# EAGLE library part MC1322* (library parts)
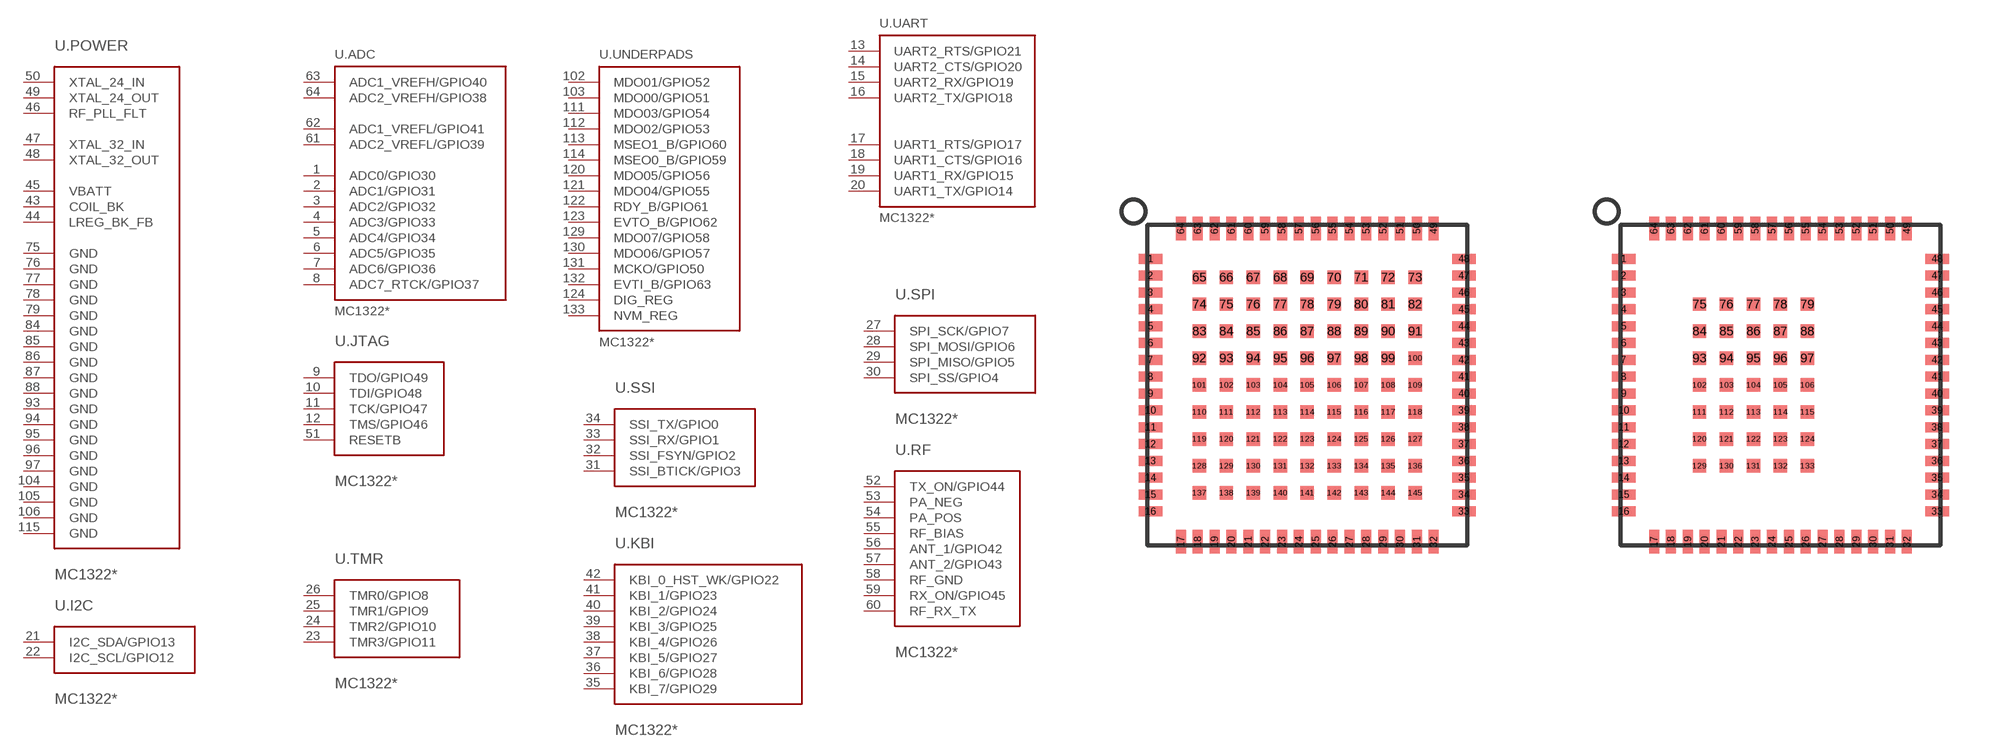
[diagram p0: symbol with the pads of LGA145; footprints LGA145, LGA145-NOEXTRAS]

Designator prefix U; gates .ADC=MC1322-ADC .I2C=MC1322-I2C .KBI=MC1322-KBI .JTAG=MC1322-PROG .RF=MC1322-RF .SPI=MC1322-SPI .SSI=MC1322-SSI .UART=MC1322-UART .TMR=MC1322-TMR .UNDERPADS=MC-1322-UNDERPAD .POWER=MC1322-POWER

## MC13224V-LGA145, MC13224VR2-LGA145  [LGA145]
1  .ADC:ADC0/GPIO30
2  .ADC:ADC1/GPIO31
3  .ADC:ADC2/GPIO32
4  .ADC:ADC3/GPIO33
5  .ADC:ADC4/GPIO34
6  .ADC:ADC5/GPIO35
7  .ADC:ADC6/GPIO36
8  .ADC:ADC7_RTCK/GPIO37
9  .JTAG:TDO/GPIO49
10  .JTAG:TDI/GPIO48
11  .JTAG:TCK/GPIO47
12  .JTAG:TMS/GPIO46
13  .UART:UART2_RTS/GPIO21
14  .UART:UART2_CTS/GPIO20
15  .UART:UART2_RX/GPIO19
16  .UART:UART2_TX/GPIO18
17  .UART:UART1_RTS/GPIO17
18  .UART:UART1_CTS/GPIO16
19  .UART:UART1_RX/GPIO15
20  .UART:UART1_TX/GPIO14
21  .I2C:I2C_SDA/GPIO13
22  .I2C:I2C_SCL/GPIO12
23  .TMR:TMR3/GPIO11
24  .TMR:TMR2/GPIO10
25  .TMR:TMR1/GPIO9
26  .TMR:TMR0/GPIO8
27  .SPI:SPI_SCK/GPIO7
28  .SPI:SPI_MOSI/GPIO6
29  .SPI:SPI_MISO/GPIO5
30  .SPI:SPI_SS/GPIO4
31  .SSI:SSI_BTICK/GPIO3
32  .SSI:SSI_FSYN/GPIO2
33  .SSI:SSI_RX/GPIO1
34  .SSI:SSI_TX/GPIO0
35  .KBI:KBI_7/GPIO29
36  .KBI:KBI_6/GPIO28
37  .KBI:KBI_5/GPIO27
38  .KBI:KBI_4/GPIO26
39  .KBI:KBI_3/GPIO25
40  .KBI:KBI_2/GPIO24
41  .KBI:KBI_1/GPIO23
42  .KBI:KBI_0_HST_WK/GPIO22
43  .POWER:COIL_BK  pwr
44  .POWER:LREG_BK_FB  pwr
45  .POWER:VBATT  pwr
46  .POWER:RF_PLL_FLT  pas
47  .POWER:XTAL_32_IN  in
48  .POWER:XTAL_32_OUT  out
49  .POWER:XTAL_24_OUT  out
50  .POWER:XTAL_24_IN  in
51  .JTAG:RESETB  in
52  .RF:TX_ON/GPIO44
53  .RF:PA_NEG  out
54  .RF:PA_POS  out
55  .RF:RF_BIAS  sup
56  .RF:ANT_1/GPIO42
57  .RF:ANT_2/GPIO43
58  .RF:RF_GND  pwr
59  .RF:RX_ON/GPIO45
60  .RF:RF_RX_TX
61  .ADC:ADC2_VREFL/GPIO39
62  .ADC:ADC1_VREFL/GPIO41
63  .ADC:ADC1_VREFH/GPIO40
64  .ADC:ADC2_VREFH/GPIO38
75  .POWER:GND
76  .POWER:GND
77  .POWER:GND
78  .POWER:GND
79  .POWER:GND
84  .POWER:GND
85  .POWER:GND
86  .POWER:GND
87  .POWER:GND
88  .POWER:GND
93  .POWER:GND
94  .POWER:GND
95  .POWER:GND
96  .POWER:GND
97  .POWER:GND
102  .UNDERPADS:MDO01/GPIO52
103  .UNDERPADS:MDO00/GPIO51
104  .POWER:GND
105  .POWER:GND
106  .POWER:GND
111  .UNDERPADS:MDO03/GPIO54
112  .UNDERPADS:MDO02/GPIO53
113  .UNDERPADS:MSEO1_B/GPIO60
114  .UNDERPADS:MSEO0_B/GPIO59
115  .POWER:GND
120  .UNDERPADS:MDO05/GPIO56
121  .UNDERPADS:MDO04/GPIO55
122  .UNDERPADS:RDY_B/GPIO61
123  .UNDERPADS:EVTO_B/GPIO62
124  .UNDERPADS:DIG_REG
129  .UNDERPADS:MDO07/GPIO58
130  .UNDERPADS:MDO06/GPIO57
131  .UNDERPADS:MCKO/GPIO50
132  .UNDERPADS:EVTI_B/GPIO63
133  .UNDERPADS:NVM_REG

## MC1322-NO-EXTRA-PADS  [LGA145-NOEXTRAS]
Pads as for LGA145

## Footprint LGA145 (pad centres in mm)
smd 0.7 x 0.3: 1 -4.65,3.75; 2 -4.65,3.25; 3 -4.65,2.75; 4 -4.65,2.25; 5 -4.65,1.75; 6 -4.65,1.25; 7 -4.65,0.75; 8 -4.65,0.25; 9 -4.65,-0.25; 10 -4.65,-0.75; 11 -4.65,-1.25; 12 -4.65,-1.75; 13 -4.65,-2.25; 14 -4.65,-2.75; 15 -4.65,-3.25; 16 -4.65,-3.75; 33 4.65,-3.75; 34 4.65,-3.25; 35 4.65,-2.75; 36 4.65,-2.25; 37 4.65,-1.75; 38 4.65,-1.25; 39 4.65,-0.75; 40 4.65,-0.25; 41 4.65,0.25; 42 4.65,0.75; 43 4.65,1.25; 44 4.65,1.75; 45 4.65,2.25; 46 4.65,2.75; 47 4.65,3.25; 48 4.65,3.75
smd 0.3 x 0.7: 17 -3.75,-4.65; 18 -3.25,-4.65; 19 -2.75,-4.65; 20 -2.25,-4.65; 21 -1.75,-4.65; 22 -1.25,-4.65; 23 -0.75,-4.65; 24 -0.25,-4.65; 25 0.25,-4.65; 26 0.75,-4.65; 27 1.25,-4.65; 28 1.75,-4.65; 29 2.25,-4.65; 30 2.75,-4.65; 31 3.25,-4.65; 32 3.75,-4.65; 49 3.75,4.65; 50 3.25,4.65; 51 2.75,4.65; 52 2.25,4.65; 53 1.75,4.65; 54 1.25,4.65; 55 0.75,4.65; 56 0.25,4.65; 57 -0.25,4.65; 58 -0.75,4.65; 59 -1.25,4.65; 60 -1.75,4.65; 61 -2.25,4.65; 62 -2.75,4.65; 63 -3.25,4.65; 64 -3.75,4.65
smd 0.4 x 0.4: 65 -3.2,3.2; 66 -2.4,3.2; 67 -1.6,3.2; 68 -0.8,3.2; 69 0,3.2; 70 0.8,3.2; 71 1.6,3.2; 72 2.4,3.2; 73 3.2,3.2; 74 -3.2,2.4; 75 -2.4,2.4; 76 -1.6,2.4; 77 -0.8,2.4; 78 0,2.4; 79 0.8,2.4; 80 1.6,2.4; 81 2.4,2.4; 82 3.2,2.4; 83 -3.2,1.6; 84 -2.4,1.6; 85 -1.6,1.6; 86 -0.8,1.6; 87 0,1.6; 88 0.8,1.6; 89 1.6,1.6; 90 2.4,1.6; 91 3.2,1.6; 92 -3.2,0.8; 93 -2.4,0.8; 94 -1.6,0.8; 95 -0.8,0.8; 96 0,0.8; 97 0.8,0.8; 98 1.6,0.8; 99 2.4,0.8; 100 3.2,0.8; 101 -3.2,0; 102 -2.4,0; 103 -1.6,0; 104 -0.8,0; 105 0,0; 106 0.8,0; 107 1.6,0; 108 2.4,0; 109 3.2,0; 110 -3.2,-0.8; 111 -2.4,-0.8; 112 -1.6,-0.8; 113 -0.8,-0.8; 114 0,-0.8; 115 0.8,-0.8; 116 1.6,-0.8; 117 2.4,-0.8; 118 3.2,-0.8; 119 -3.2,-1.6; 120 -2.4,-1.6; 121 -1.6,-1.6; 122 -0.8,-1.6; 123 0,-1.6; 124 0.8,-1.6; 125 1.6,-1.6; 126 2.4,-1.6; 127 3.2,-1.6; 128 -3.2,-2.4; 129 -2.4,-2.4; 130 -1.6,-2.4; 131 -0.8,-2.4; 132 0,-2.4; 133 0.8,-2.4; 134 1.6,-2.4; 135 2.4,-2.4; 136 3.2,-2.4; 137 -3.2,-3.2; 138 -2.4,-3.2; 139 -1.6,-3.2; 140 -0.8,-3.2; 141 0,-3.2; 142 0.8,-3.2; 143 1.6,-3.2; 144 2.4,-3.2; 145 3.2,-3.2

## Footprint LGA145-NOEXTRAS (pad centres in mm)
smd 0.7 x 0.3: 1 -4.64,3.75; 2 -4.64,3.25; 3 -4.64,2.75; 4 -4.64,2.25; 5 -4.64,1.75; 6 -4.64,1.25; 7 -4.64,0.75; 8 -4.64,0.25; 9 -4.64,-0.25; 10 -4.64,-0.75; 11 -4.64,-1.25; 12 -4.64,-1.75; 13 -4.64,-2.25; 14 -4.64,-2.75; 15 -4.64,-3.25; 16 -4.64,-3.75; 33 4.66,-3.75; 34 4.66,-3.25; 35 4.66,-2.75; 36 4.66,-2.25; 37 4.66,-1.75; 38 4.66,-1.25; 39 4.66,-0.75; 40 4.66,-0.25; 41 4.66,0.25; 42 4.66,0.75; 43 4.66,1.25; 44 4.66,1.75; 45 4.66,2.25; 46 4.66,2.75; 47 4.66,3.25; 48 4.66,3.75
smd 0.3 x 0.7: 17 -3.74,-4.65; 18 -3.24,-4.65; 19 -2.74,-4.65; 20 -2.24,-4.65; 21 -1.74,-4.65; 22 -1.24,-4.65; 23 -0.74,-4.65; 24 -0.24,-4.65; 25 0.26,-4.65; 26 0.76,-4.65; 27 1.26,-4.65; 28 1.76,-4.65; 29 2.26,-4.65; 30 2.76,-4.65; 31 3.26,-4.65; 32 3.76,-4.65; 49 3.76,4.65; 50 3.26,4.65; 51 2.76,4.65; 52 2.26,4.65; 53 1.76,4.65; 54 1.26,4.65; 55 0.76,4.65; 56 0.26,4.65; 57 -0.24,4.65; 58 -0.74,4.65; 59 -1.24,4.65; 60 -1.74,4.65; 61 -2.24,4.65; 62 -2.74,4.65; 63 -3.24,4.65; 64 -3.74,4.65
smd 0.4 x 0.4: 75 -2.39,2.4; 76 -1.59,2.4; 77 -0.79,2.4; 78 0.01,2.4; 79 0.81,2.4; 84 -2.39,1.6; 85 -1.59,1.6; 86 -0.79,1.6; 87 0.01,1.6; 88 0.81,1.6; 93 -2.39,0.8; 94 -1.59,0.8; 95 -0.79,0.8; 96 0.01,0.8; 97 0.81,0.8; 102 -2.39,0; 103 -1.59,0; 104 -0.79,0; 105 0.01,0; 106 0.81,0; 111 -2.39,-0.8; 112 -1.59,-0.8; 113 -0.79,-0.8; 114 0.01,-0.8; 115 0.81,-0.8; 120 -2.39,-1.6; 121 -1.59,-1.6; 122 -0.79,-1.6; 123 0.01,-1.6; 124 0.81,-1.6; 129 -2.39,-2.4; 130 -1.59,-2.4; 131 -0.79,-2.4; 132 0.01,-2.4; 133 0.81,-2.4